# Altium schematic symbol library Passives.SchLib: 2 symbols
Pins are listed as number, name and electrical type; pins without a type are passive.

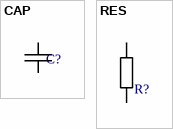
[diagram p0: symbols CAP to RES]

## CAP
designator C?
CAP
pins: 1, 2

## RES
designator R?
RES
pins: 1, 2